# Altium schematic symbol library JSB_SchLib.SchLib: 5 symbols
Pins are listed as number, name and electrical type; pins without a type are passive.

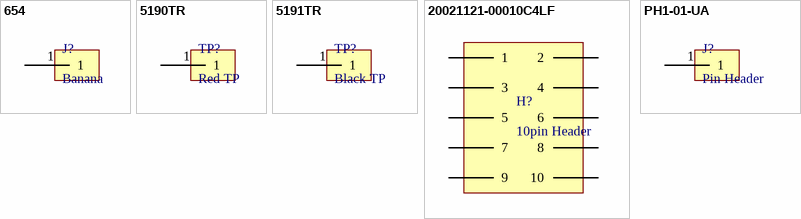
[diagram p0: symbols 654 to PH1-01-UA]

## 654
designator J?, comment Banana
CONN BANANA PLUG THRD; Manufacturer: Keystone Electronics; Manufacturer Part Number: 654; Connector Type: Interconnection Device; Supplier: Digi-Key; Supplier Part Number: 36-654-ND; RoHS: Yes; Category: Connectors; Stock: 4200; Pricing: 1=2,73, 25=2,3996, 100=2,1816, 250=1,98876, 500=1,85436, 1000=1,58166, 2500=1,47258 (USD); RoHS Compliant: Yes; Reach SVHC Compliant: Yes; ComponentLink1URL: https://datasheet.ciiva.com:443/pdfs/VipMasterIC/IC/KEYC/KEYCS00181/KEYCS00191-1.pdf?src-supplier=IHS+Markit; ComponentLink1Description: https://datasheet.ciiva.com:443/pdfs/VipMasterIC/IC/KEYC/KEYCS00181/KEYCS00191-1.pdf?src-supplier=IHS+Markit; ComponentLink2URL: http://mail.keyelco.com/ENG._DEPT/PDF%20CAT%20NO%20Drawings/654.pdf?src-supplier=Digi-Key; ComponentLink2Description: http://mail.keyelco.com/ENG._DEPT/PDF%20CAT%20NO%20Drawings/654.pdf?src-supplier=Digi-Key; ComponentLink3URL: http://keyelco.com/userAssets/file/M65p110.pdf?src-supplier=Digi-Key; ComponentLink3Description: http://keyelco.com/userAssets/file/M65p110.pdf?src-supplier=Digi-Key
footprint 654
pins: 1

## 5190TR
designator TP?, comment Red TP
RED SMD Test Point; Manufacturer: Keystone Electronics; Manufacturer Part Number: 5190TR; Supplier: Digi-Key; Supplier Part Number: 36-5190CT-ND; RoHS: Yes; Category: Connectors; Stock: 241676; Pricing: 1=0,42, 10=0,401, 25=0,3436, 50=0,292, 100=0,2806, 250=0,25196, 500=0,24052 (USD); ComponentLink1URL: https://www.keyelco.com/product-pdf.cfm?p=14478&src-supplier=Digi-Key; ComponentLink1Description: https://www.keyelco.com/product-pdf.cfm?p=14478&src-supplier=Digi-Key
footprint 5190TR (RED SMD Test Point)
pins: 1

## 5191TR
designator TP?, comment Black TP
BLACK SMD Test Point; Manufacturer: Keystone Electronics; Manufacturer Part Number: 5191TR; Supplier: Digi-Key; Supplier Part Number: 36-5191CT-ND; RoHS: Yes; Category: Connectors; Stock: 118911; Pricing: 1=0,42, 10=0,401, 25=0,3436, 50=0,292, 100=0,2806, 250=0,25196, 500=0,24052 (USD); RoHS Compliant: Yes
footprint 5191TR (Black SMD Test Point)
pins: 1

## 20021121-00010C4LF
designator H?, comment 10pin Header
10 Pin Mini Header; Manufacturer: Amphenol ICC / FCI; Manufacturer Part Number: 20021121-00010C4LF; Supplier: Digi-Key; Supplier Part Number: 609-3695-1-ND; RoHS: No; Category: Headers and Wire Housings; Stock: 137144; Pricing: 1=0,99, 10=0,839, 100=0,7533 (USD); ComponentLink1URL: https://datasheet.ciiva.com/11749/0900766b8118d62a-11749057.pdf?src-supplier=Rs; ComponentLink1Description: https://datasheet.ciiva.com/11749/0900766b8118d62a-11749057.pdf?src-supplier=Rs
footprint 20021121 (10 Pin header)
pins: 1, 2, 3, 4, 5, 6, 7, 8, 9, 10

## PH1-01-UA
designator J?, comment Pin Header
CONN HEADER VERT 1POS 2.54MM; Manufacturer: Adam Equipment; Manufacturer Part Number: PH1-01-UA; Supplier: Digi-Key; Supplier Part Number: 2057-PH1-01-UA-ND; RoHS: Yes; Category: Headers and Wire Housings; Stock: 36924; Pricing: 1=0,1, 10=0,019, 100=0,0118, 500=0,00984, 1000=0,00886, 5000=0,00748, 10000=0,00709 (USD); ComponentLink1URL: https://datasheet.ciiva.com/16479/page-292-295-16479373.pdf?src-supplier=Future+Electronics; ComponentLink1Description: https://datasheet.ciiva.com/16479/page-292-295-16479373.pdf?src-supplier=Future+Electronics
footprint PH1-01-UA
pins: 1